# Altium schematic symbol library HDMI.SchLib: 12 symbols
Pins are listed as number, name and electrical type; pins without a type are passive.

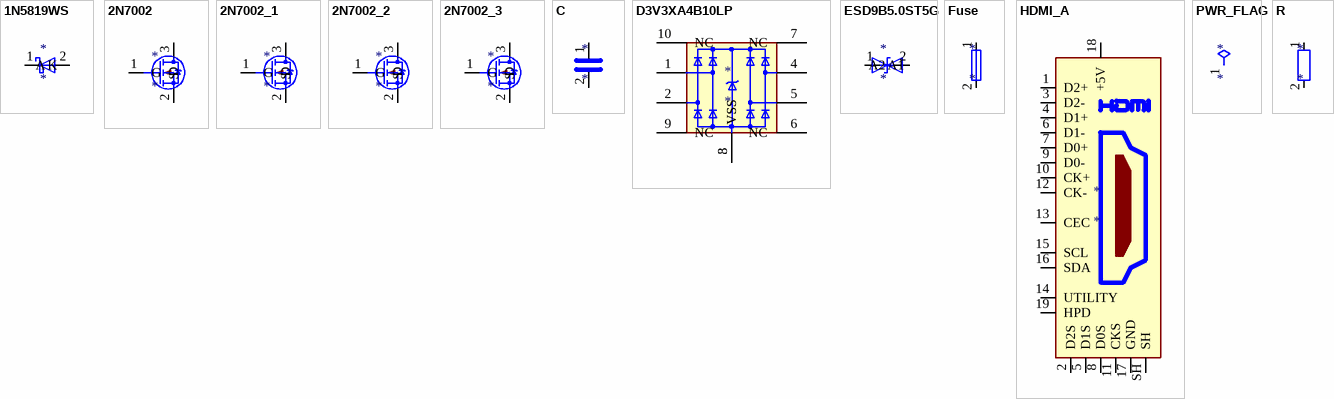
[diagram p0: symbols 1N5819WS to R]

## 1N5819WS
designator *
pins: 1 K, 2 A

## 2N7002
designator *
pins: 1 G, 2 S, 3 D

## 2N7002_1
designator *
pins: 1 G, 2 S, 3 D

## 2N7002_2
designator *
pins: 1 G, 2 S, 3 D

## 2N7002_3
designator *
pins: 1 G, 2 S, 3 D

## C
designator *
pins: 1, 2

## D3V3XA4B10LP
designator *
pins: 1, 2, 3 VSS, 4, 5, 6 NC, 7 NC, 8 VSS, 9 NC, 10 NC

## ESD9B5.0ST5G
designator *
pins: 1 A1, 2 A2

## Fuse
designator *
pins: 1, 2

## HDMI_A
designator *
pins: 1 D2+, 2 D2S, 3 D2-, 4 D1+, 5 D1S, 6 D1-, 7 D0+, 8 D0S, 9 D0-, 10 CK+, 11 CKS, 12 CK-, 13 CEC, 14 UTILITY, 15 SCL, 16 SDA, 17 GND, 18 +5V, 19 HPD, SH

## PWR_FLAG
designator *  (graphical)
pins: 1

## R
designator *
pins: 1, 2